# Altium schematic symbol library Bobina 25A.SchLib: 1 symbol
Pins are listed as number, name and electrical type; pins without a type are passive.

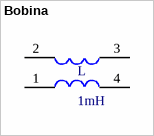
[diagram p0: symbol Bobina]

## Bobina
designator L, comment 1mH
footprint Bobina
pins: 1, 2, 3, 4